# Altium integrated library BM22192DA06.IntLib: 31 symbols
Pins are listed as number, name and electrical type; pins without a type are passive.

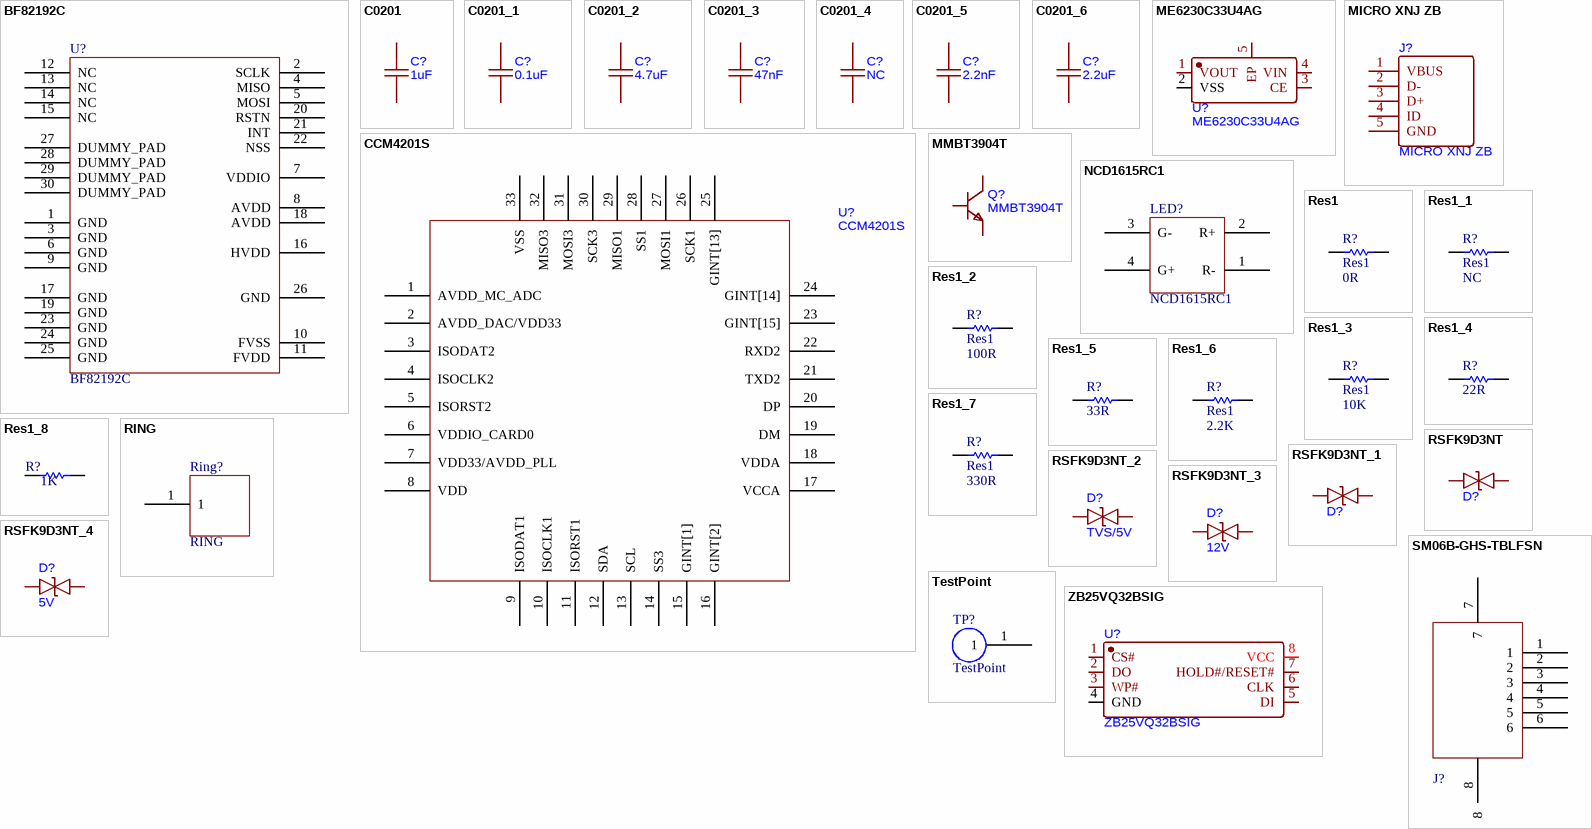
[diagram p0: symbols BF82192C to ZB25VQ32BSIG]

## BF82192C
designator U?
footprint BF82192C (FP_MODOULE)
footprint BF82192c (FP_MODOULE)
footprint BF82192c (FP_MODOULE)
footprint BF82192c (FP_MODOULE)
footprint BF82192c (FP_MODOULE)
pins: 1 GND, 2 SCLK, 3 GND, 4 MISO, 5 MOSI, 6 GND, 7 VDDIO, 8 AVDD, 9 GND, 10 FVSS, 11 FVDD, 12 NC, 13 NC, 14 NC, 15 NC, 16 HVDD, 17 GND, 18 AVDD, 19 GND, 20 RSTN, 21 INT, 22 NSS, 23 GND, 24 GND, 25 GND, 26 GND, 27 DUMMY_PAD, 28 DUMMY_PAD, 29 DUMMY_PAD, 30 DUMMY_PAD

## C0201
designator C?, comment 1uF
Parameter 1: 1uF
footprint C0201
footprint C0402
footprint C0402
footprint C0402
pins: 1, 2

## C0201_1
designator C?, comment 0.1uF
CAP
footprint C0201
pins: 1, 2

## C0201_2
designator C?, comment 4.7uF
Parameter 1: 1uF
footprint C0201
footprint C0402
pins: 1, 2

## C0201_3
designator C?, comment 47nF
CAP
footprint C0201
pins: 1, 2

## C0201_4
designator C?, comment NC
CAP
footprint C0201
pins: 1, 2

## C0201_5
designator C?, comment 2.2nF
CAP
footprint C0201
pins: 1, 2

## C0201_6
designator C?, comment 2.2uF
CAP
footprint C0201
pins: 1, 2

## CCM4201S
designator U?
footprint QFN-88_L10.0-W10.0-P0.40-BL-EP6.75
footprint QFN40P400X400X85_HS-33N (QFN, 32-Leads, Body 4.00x4.00mm, Pitch 0.40mm, Thermal Pad 2.80x2.80mm, IPC Medium Density)
pins: 1 AVDD_MC_ADC, 2 AVDD_DAC/VDD33, 3 ISODAT2, 4 ISOCLK2, 5 ISORST2, 6 VDDIO_CARD0, 7 VDD33/AVDD_PLL, 8 VDD, 9 ISODAT1, 10 ISOCLK1, 11 ISORST1, 12 SDA, 13 SCL, 14 SS3, 15 GINT[1], 16 GINT[2], 17 VCCA, 18 VDDA, 19 DM, 20 DP, 21 TXD2, 22 RXD2, 23 GINT[15], 24 GINT[14], 25 GINT[13], 26 SCK1, 27 MOSI1, 28 SS1, 29 MISO1, 30 SCK3, 31 MOSI3, 32 MISO3, 33 VSS

## ME6230C33U4AG
designator U?
LDO
footprint FBP4L_L1.0-W1.0-P0.65-BL-EP
footprint FBP4L_L1.0-W1.0-P0.65-BL-EP
footprint FBP4L_L1.0-W1.0-P0.65-BL-EP
footprint FBP4L_L1.0-W1.0-P0.65-BL-EP
footprint Model Name (Footprint not found)
footprint FBP4L_L1.0-W1.0-P0.65-BL-EP
pins: 1 VOUT, 2 VSS, 3 CE, 4 VIN, 5 EP

## MICRO XNJ ZB
designator J?
footprint MICRO-USB-SMD_MICRO-XNJ-ZB
footprint MICRO-USB-SMD_MICRO-XNJ-ZB
pins: 1 VBUS, 2 D-, 3 D+, 4 ID, 5 GND

## MMBT3904T
designator Q?
NPN triode
footprint SOT-523-3_L1.6-W0.8-P1.00-LS1.6-BR
pins: 1 B, 2 E, 3 C

## NCD1615RC1
designator LED?
LED
footprint LED-SMD_4P-L1.6-W1.5-TL-1
footprint LED-SMD_4P-L1.6-W1.5-TL-1
pins: 1 R-, 2 R+, 3 G-, 4 G+

## Res1
designator R?  value 0R
Resistor; Published: 8-Jun-2000; LatestRevisionDate: 17-Jul-2002; LatestRevisionNote: Re-released for DXP Platform.; PackageReference: AXIAL-0.3; Publisher: Altium Limited; PackageDescription: Axial Device, Thru-Hole; 2 Leads; 0.3 in Pin Spacing
footprint AXIAL-0.3 (Axial Device, Thru-Hole; 2 Leads; 0.3 in Pin Spacing)
simulation model RESISTOR (Resistor)
signal-integrity model Res
footprint R0201
pins: 1, 2

## Res1_1
designator R?, comment Res1  value NC
Resistor; Published: 8-Jun-2000; LatestRevisionDate: 17-Jul-2002; LatestRevisionNote: Re-released for DXP Platform.; PackageReference: AXIAL-0.3; Publisher: Altium Limited; PackageDescription: Axial Device, Thru-Hole; 2 Leads; 0.3 in Pin Spacing
footprint AXIAL-0.3 (Axial Device, Thru-Hole; 2 Leads; 0.3 in Pin Spacing)
simulation model RESISTOR (Resistor)
signal-integrity model Res
footprint R0201
pins: 1, 2

## Res1_2
designator R?, comment Res1  value 100R
Resistor; Published: 8-Jun-2000; LatestRevisionDate: 17-Jul-2002; LatestRevisionNote: Re-released for DXP Platform.; PackageReference: AXIAL-0.3; Publisher: Altium Limited; PackageDescription: Axial Device, Thru-Hole; 2 Leads; 0.3 in Pin Spacing
footprint AXIAL-0.3 (Axial Device, Thru-Hole; 2 Leads; 0.3 in Pin Spacing)
simulation model RESISTOR (Resistor)
signal-integrity model Res
footprint R0201
pins: 1, 2

## Res1_3
designator R?, comment Res1  value 10K
Resistor; Published: 8-Jun-2000; LatestRevisionDate: 17-Jul-2002; LatestRevisionNote: Re-released for DXP Platform.; PackageReference: AXIAL-0.3; Publisher: Altium Limited; PackageDescription: Axial Device, Thru-Hole; 2 Leads; 0.3 in Pin Spacing
footprint AXIAL-0.3 (Axial Device, Thru-Hole; 2 Leads; 0.3 in Pin Spacing)
simulation model RESISTOR (Resistor)
signal-integrity model Res
footprint R0201
pins: 1, 2

## Res1_4
designator R?, comment value 22R  (hidden comment: Res1)
Resistor; Published: 8-Jun-2000; LatestRevisionDate: 17-Jul-2002; LatestRevisionNote: Re-released for DXP Platform.; PackageReference: AXIAL-0.3; Publisher: Altium Limited; PackageDescription: Axial Device, Thru-Hole; 2 Leads; 0.3 in Pin Spacing
footprint AXIAL-0.3 (Axial Device, Thru-Hole; 2 Leads; 0.3 in Pin Spacing)
simulation model RESISTOR (Resistor)
signal-integrity model Res
footprint R0201
footprint R0201
pins: 1, 2

## Res1_5
designator R?, comment value 33R  (hidden comment: Res1)
Resistor; Published: 8-Jun-2000; LatestRevisionDate: 17-Jul-2002; LatestRevisionNote: Re-released for DXP Platform.; PackageReference: AXIAL-0.3; Publisher: Altium Limited; PackageDescription: Axial Device, Thru-Hole; 2 Leads; 0.3 in Pin Spacing
footprint AXIAL-0.3 (Axial Device, Thru-Hole; 2 Leads; 0.3 in Pin Spacing)
simulation model RESISTOR (Resistor)
signal-integrity model Res
footprint R0201
pins: 1, 2

## Res1_6
designator R?, comment Res1  value 2.2K
Resistor; Published: 8-Jun-2000; LatestRevisionDate: 17-Jul-2002; LatestRevisionNote: Re-released for DXP Platform.; PackageReference: AXIAL-0.3; Publisher: Altium Limited; PackageDescription: Axial Device, Thru-Hole; 2 Leads; 0.3 in Pin Spacing
footprint AXIAL-0.3 (Axial Device, Thru-Hole; 2 Leads; 0.3 in Pin Spacing)
simulation model RESISTOR (Resistor)
signal-integrity model Res
footprint R0201
pins: 1, 2

## Res1_7
designator R?, comment Res1  value 330R
Resistor; Published: 8-Jun-2000; LatestRevisionDate: 17-Jul-2002; LatestRevisionNote: Re-released for DXP Platform.; PackageReference: AXIAL-0.3; Publisher: Altium Limited; PackageDescription: Axial Device, Thru-Hole; 2 Leads; 0.3 in Pin Spacing
footprint AXIAL-0.3 (Axial Device, Thru-Hole; 2 Leads; 0.3 in Pin Spacing)
simulation model RESISTOR (Resistor)
signal-integrity model Res
footprint R0201
pins: 1, 2

## Res1_8
designator R?, comment value 1K  (hidden comment: Res1)
Resistor; Published: 8-Jun-2000; LatestRevisionDate: 17-Jul-2002; LatestRevisionNote: Re-released for DXP Platform.; PackageReference: AXIAL-0.3; Publisher: Altium Limited; PackageDescription: Axial Device, Thru-Hole; 2 Leads; 0.3 in Pin Spacing
footprint AXIAL-0.3 (Axial Device, Thru-Hole; 2 Leads; 0.3 in Pin Spacing)
simulation model RESISTOR (Resistor)
signal-integrity model Res
footprint R0201
pins: 1, 2

## RING
designator Ring?
Metal Ring
footprint Ring
footprint 金属环
pins: 1

## RSFK9D3NT
designator D?  (value not drawn)
footprint D0201-BI_A
pins: 1 K, 2 A

## RSFK9D3NT_1
designator D?, comment RSFK9D3NT  (value not drawn)
TVS
footprint D0201-BI_A
pins: 1 K, 2 A

## RSFK9D3NT_2
designator D?, comment TVS/5V
TVS
footprint D0201-BI_A
pins: 1 K, 2 A

## RSFK9D3NT_3
designator D?, comment 12V
TVS
footprint D0201-BI_A
pins: 1 K, 2 A

## RSFK9D3NT_4
designator D?, comment 5V
TVS
footprint D0201-BI_A
pins: 1 K, 2 A

## SM06B-GHS-TBLFSN
designator J?, comment SM06B-GHS-TB(LF)(SN)  (value not drawn)
Description
footprint CONN_SM06B-GHS-TB_JST
footprint CONN_SM06B-GHS-TB_JST
pins: 1, 2, 3, 4, 5, 6, 7, 8

## TestPoint
designator TP?
footprint TestPoint (TP)
pins: 1

## ZB25VQ32BSIG
designator U?
footprint SOIJ-8_L5.3-W5.3-P1.27-LS7.9-BL
pins: 1 CS#, 2 DO, 3 WP#, 4 GND, 5 DI, 6 CLK, 7 HOLD#/RESET#, 8 VCC